# Altium schematic symbol library TS3USB30EDGSR.Schlib: 1 symbol
Pins are listed as number, name and electrical type; pins without a type are passive.

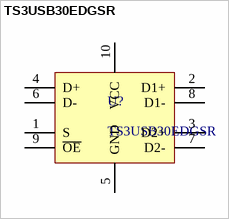
[diagram p0: symbol TS3USB30EDGSR]

## TS3USB30EDGSR
designator U?
IC USB SWITCH SGL 1X2 10MSOP
pins: 1 S, 2 D1+, 3 D2+, 4 D+, 5 GND, 6 D-, 7 D2-, 8 D1-, 9 ~{OE}, 10 VCC